# EAGLE library part TSW-D-72 (library con-samtec-tsw)
HEADER
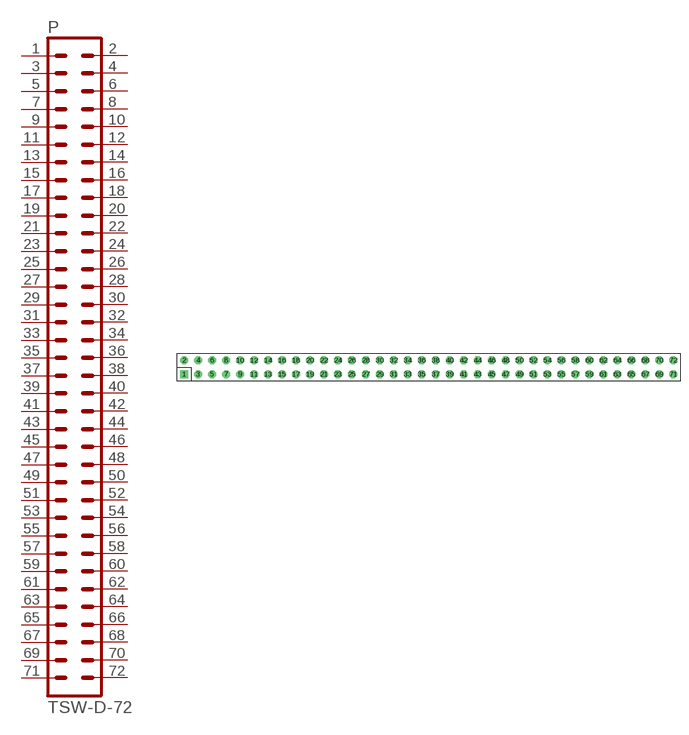
[diagram p123: symbol with the pads of TSW-D-72; footprint TSW-D-72]

Designator prefix P

## TSW-D-72  [TSW-D-72]
1  1  pas
2  2  pas
3  3  pas
4  4  pas
5  5  pas
6  6  pas
7  7  pas
8  8  pas
9  9  pas
10  10  pas
11  11  pas
12  12  pas
13  13  pas
14  14  pas
15  15  pas
16  16  pas
17  17  pas
18  18  pas
19  19  pas
20  20  pas
21  21  pas
22  22  pas
23  23  pas
24  24  pas
25  25  pas
26  26  pas
27  27  pas
28  28  pas
29  29  pas
30  30  pas
31  31  pas
32  32  pas
33  33  pas
34  34  pas
35  35  pas
36  36  pas
37  37  pas
38  38  pas
39  39  pas
40  40  pas
41  41  pas
42  42  pas
43  43  pas
44  44  pas
45  45  pas
46  46  pas
47  47  pas
48  48  pas
49  49  pas
50  50  pas
51  51  pas
52  52  pas
53  53  pas
54  54  pas
55  55  pas
56  56  pas
57  57  pas
58  58  pas
59  59  pas
60  60  pas
61  61  pas
62  62  pas
63  63  pas
64  64  pas
65  65  pas
66  66  pas
67  67  pas
68  68  pas
69  69  pas
70  70  pas
71  71  pas
72  72  pas

## Footprint TSW-D-72 (pad centres in mm)
HEADER
drill 0.914 square: 1 -44.45,-1.27
drill 0.914 octagon: 2 -44.45,1.27; 3 -41.91,-1.27; 4 -41.91,1.27; 5 -39.37,-1.27; 6 -39.37,1.27; 7 -36.83,-1.27; 8 -36.83,1.27; 9 -34.29,-1.27; 10 -34.29,1.27; 11 -31.75,-1.27; 12 -31.75,1.27; 13 -29.21,-1.27; 14 -29.21,1.27; 15 -26.67,-1.27; 16 -26.67,1.27; 17 -24.13,-1.27; 18 -24.13,1.27; 19 -21.59,-1.27; 20 -21.59,1.27; 21 -19.05,-1.27; 22 -19.05,1.27; 23 -16.51,-1.27; 24 -16.51,1.27; 25 -13.97,-1.27; 26 -13.97,1.27; 27 -11.43,-1.27; 28 -11.43,1.27; 29 -8.89,-1.27; 30 -8.89,1.27; 31 -6.35,-1.27; 32 -6.35,1.27; 33 -3.81,-1.27; 34 -3.81,1.27; 35 -1.27,-1.27; 36 -1.27,1.27; 37 1.27,-1.27; 38 1.27,1.27; 39 3.81,-1.27; 40 3.81,1.27; 41 6.35,-1.27; 42 6.35,1.27; 43 8.89,-1.27; 44 8.89,1.27; 45 11.43,-1.27; 46 11.43,1.27; 47 13.97,-1.27; 48 13.97,1.27; 49 16.51,-1.27; 50 16.51,1.27; 51 19.05,-1.27; 52 19.05,1.27; 53 21.59,-1.27; 54 21.59,1.27; 55 24.13,-1.27; 56 24.13,1.27; 57 26.67,-1.27; 58 26.67,1.27; 59 29.21,-1.27; 60 29.21,1.27; 61 31.75,-1.27; 62 31.75,1.27; 63 34.29,-1.27; 64 34.29,1.27; 65 36.83,-1.27; 66 36.83,1.27; 67 39.37,-1.27; 68 39.37,1.27; 69 41.91,-1.27; 70 41.91,1.27; 71 44.45,-1.27; 72 44.45,1.27